# Altium schematic symbol library Schlib-ASM-ON-M15.SchLib: 1 symbol
Pins are listed as number, name and electrical type; pins without a type are passive.

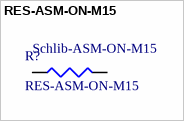
[diagram p0: symbol RES-ASM-ON-M15]

## RES-ASM-ON-M15
designator R?
ASM ON M15
footprint R0805-ASM-ON-M15
pins: 1, 2
text: Schlib-ASM-ON-M15